# EAGLE library part ATTINY26*M (library AVR)
MICROCONTROLLER 2 Kbytes FLASH 128 bytes SRAM 128 bytes EEPROM USI 10-channel 10 bit ADC
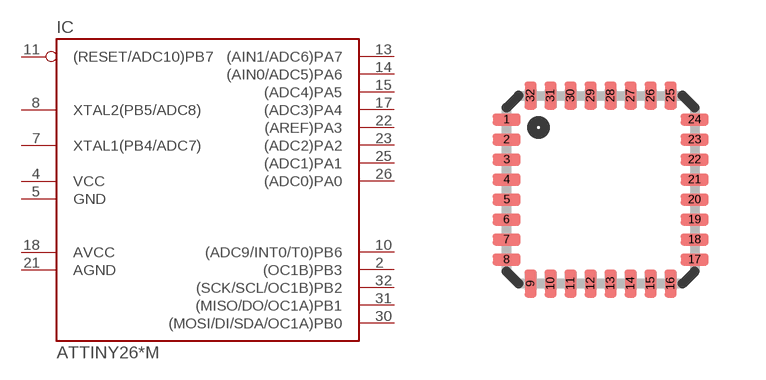
[diagram p63: symbol with the pads of MLF32; footprint MLF32]

Designator prefix IC

## ATTINY26-16M, ATTINY26L-8M  [MLF32]
1  P$1  nc
2  (OC1B)PB3
3  P$2  nc
4  VCC  pwr
5  GND  pwr
6  P$3  nc
7  XTAL1(PB4/ADC7)
8  XTAL2(PB5/ADC8)
9  P$4  nc
10  (ADC9/INT0/T0)PB6
11  (RESET/ADC10)PB7
12  P$5  nc
13  (AIN1/ADC6)PA7
14  (AIN0/ADC5)PA6
15  (ADC4)PA5
16  P$6  nc
17  (ADC3)PA4
18  AVCC  pwr
19  P$7  nc
20  P$8  nc
21  AGND  pwr
22  (AREF)PA3
23  (ADC2)PA2
24  P$9  nc
25  (ADC1)PA1
26  (ADC0)PA0
27  P$10  nc
28  P$11  nc
29  P$12  nc
30  (MOSI/DI/SDA/OC1A)PB0
31  (MISO/DO/OC1A)PB1
32  (SCK/SCL/OC1B)PB2

## Footprint MLF32 (pad centres in mm)
32M1-A Micro Lead Frame package (MLF)
smd 0.7 x 0.3: 1 -2.35,1.75; 2 -2.35,1.25; 3 -2.35,0.75; 4 -2.35,0.25; 5 -2.35,-0.25; 6 -2.35,-0.75; 7 -2.35,-1.25; 8 -2.35,-1.75; 17 2.35,-1.75; 18 2.35,-1.25; 19 2.35,-0.75; 20 2.35,-0.25; 21 2.35,0.25; 22 2.35,0.75; 23 2.35,1.25; 24 2.35,1.75
smd 0.3 x 0.7: 9 -1.75,-2.35; 10 -1.25,-2.35; 11 -0.75,-2.35; 12 -0.25,-2.35; 13 0.25,-2.35; 14 0.75,-2.35; 15 1.25,-2.35; 16 1.75,-2.35; 25 1.75,2.35; 26 1.25,2.35; 27 0.75,2.35; 28 0.25,2.35; 29 -0.25,2.35; 30 -0.75,2.35; 31 -1.25,2.35; 32 -1.75,2.35